# EAGLE library part MA10-1J (library joakim)
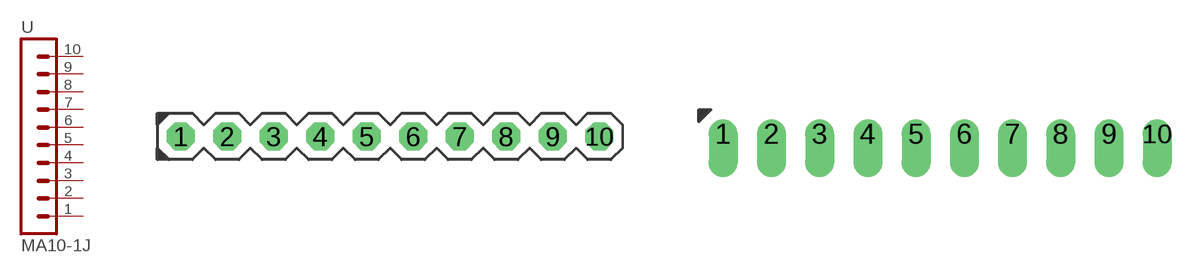
[diagram p31: symbol with the pads of MA10-1J; footprints MA10-1J, SIP-PIN10-1J]

Designator prefix -

## MA10-1JC  [MA10-1J]
1  1  pas
2  2  pas
3  3  pas
4  4  pas
5  5  pas
6  6  pas
7  7  pas
8  8  pas
9  9  pas
10  10  pas

## MA10-1JP  [SIP-PIN10-1J]
Pads as for MA10-1J

## Footprint MA10-1J (pad centres in mm)
drill 1.016 octagon: 1 -11.43,0; 2 -8.89,0; 3 -6.35,0; 4 -3.81,0; 5 -1.27,0; 6 1.27,0; 7 3.81,0; 8 6.35,0; 9 8.89,0; 10 11.43,0

## Footprint SIP-PIN10-1J (pad centres in mm)
drill 1.016 offset: 1 -11.43,0; 2 -8.89,0; 3 -6.35,0; 4 -3.81,0; 5 -1.27,0; 6 1.27,0; 7 3.81,0; 8 6.35,0; 9 8.89,0; 10 11.43,0